# Altium schematic symbol library SN74AHC1G00DBVRG4.SchLib: 1 symbol
Pins are listed as number, name and electrical type; pins without a type are passive.

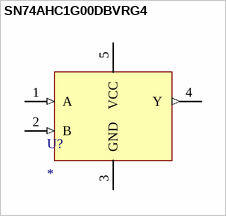
[diagram p0: symbol SN74AHC1G00DBVRG4]

## SN74AHC1G00DBVRG4
designator U?
MF: {'manufacturer': u'Texas Instruments'}; MP: SN74AHC1G00DBVRG4; Availability: Unavailable; Price: None; Package: None; Value: *
footprint SOT95P280X145-5N
pins: 1 A (in), 2 B (in), 3 GND (power), 4 Y (out), 5 VCC (power)